# Altium schematic symbol library CAP_0201.SchLib: 1 symbol
Pins are listed as number, name and electrical type; pins without a type are passive.

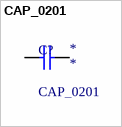
[diagram p0: symbol CAP_0201]

## CAP_0201
designator C?
Value: *; Tolerance: *
footprint CAPC0201(0603)33_N (Chip Capacitor, Body 0.6x0.3mm, Height 0.33mm, IPC Medium Density)
footprint CAPC0201(0603)33_N (Chip Capacitor, Body 0.6x0.3mm, Height 0.33mm, IPC Medium Density)
pins: 1, 2
1 alternate drawing of the same symbol